# Altium schematic symbol library Pin Connector.SchLib: 5 symbols
Pins are listed as number, name and electrical type; pins without a type are passive.

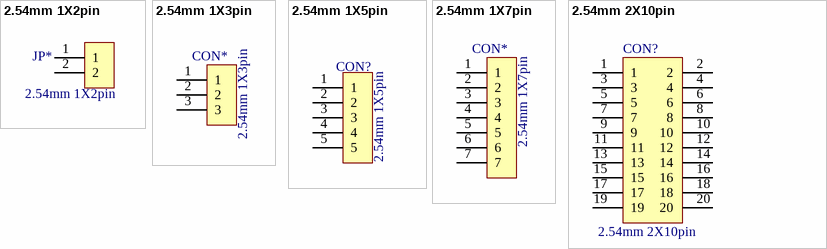
[diagram p0: symbols 2.54mm 1X2pin to 2.54mm 2X10pin]

## 2.54mm 1X2pin
designator JP*
pins: 1, 2

## 2.54mm 1X3pin
designator CON*
footprint 2.54mm 1X3pin
pins: 1, 2, 3

## 2.54mm 1X5pin
designator CON?
footprint 2.54mm 1X5pin
pins: 1, 2, 3, 4, 5

## 2.54mm 1X7pin
designator CON*
footprint 2.53MM 1X7PIN
pins: 1, 2, 3, 4, 5, 6, 7

## 2.54mm 2X10pin
designator CON?
footprint 2.54MM 2X10 PIN ANG (2.54MM 2X10 Pin)
footprint 2.54MM 2X10PIN STR
pins: 1, 2, 3, 4, 5, 6, 7, 8, 9, 10, 11, 12, 13, 14, 15, 16, 17, 18, 19, 20